# Altium footprint library Switcher.PcbLib: 128 footprints (part 6 of 9)
Each footprint in its own frame and in the unit in brackets; x right, y up, seen from the top. Pads: shape width x height; smd on the part's side, far side on the other; paste and mask are expansions set on the pad; w line width, h text height; cw(c..) or ccw(c..) is an arc to the next point about the centre after c.
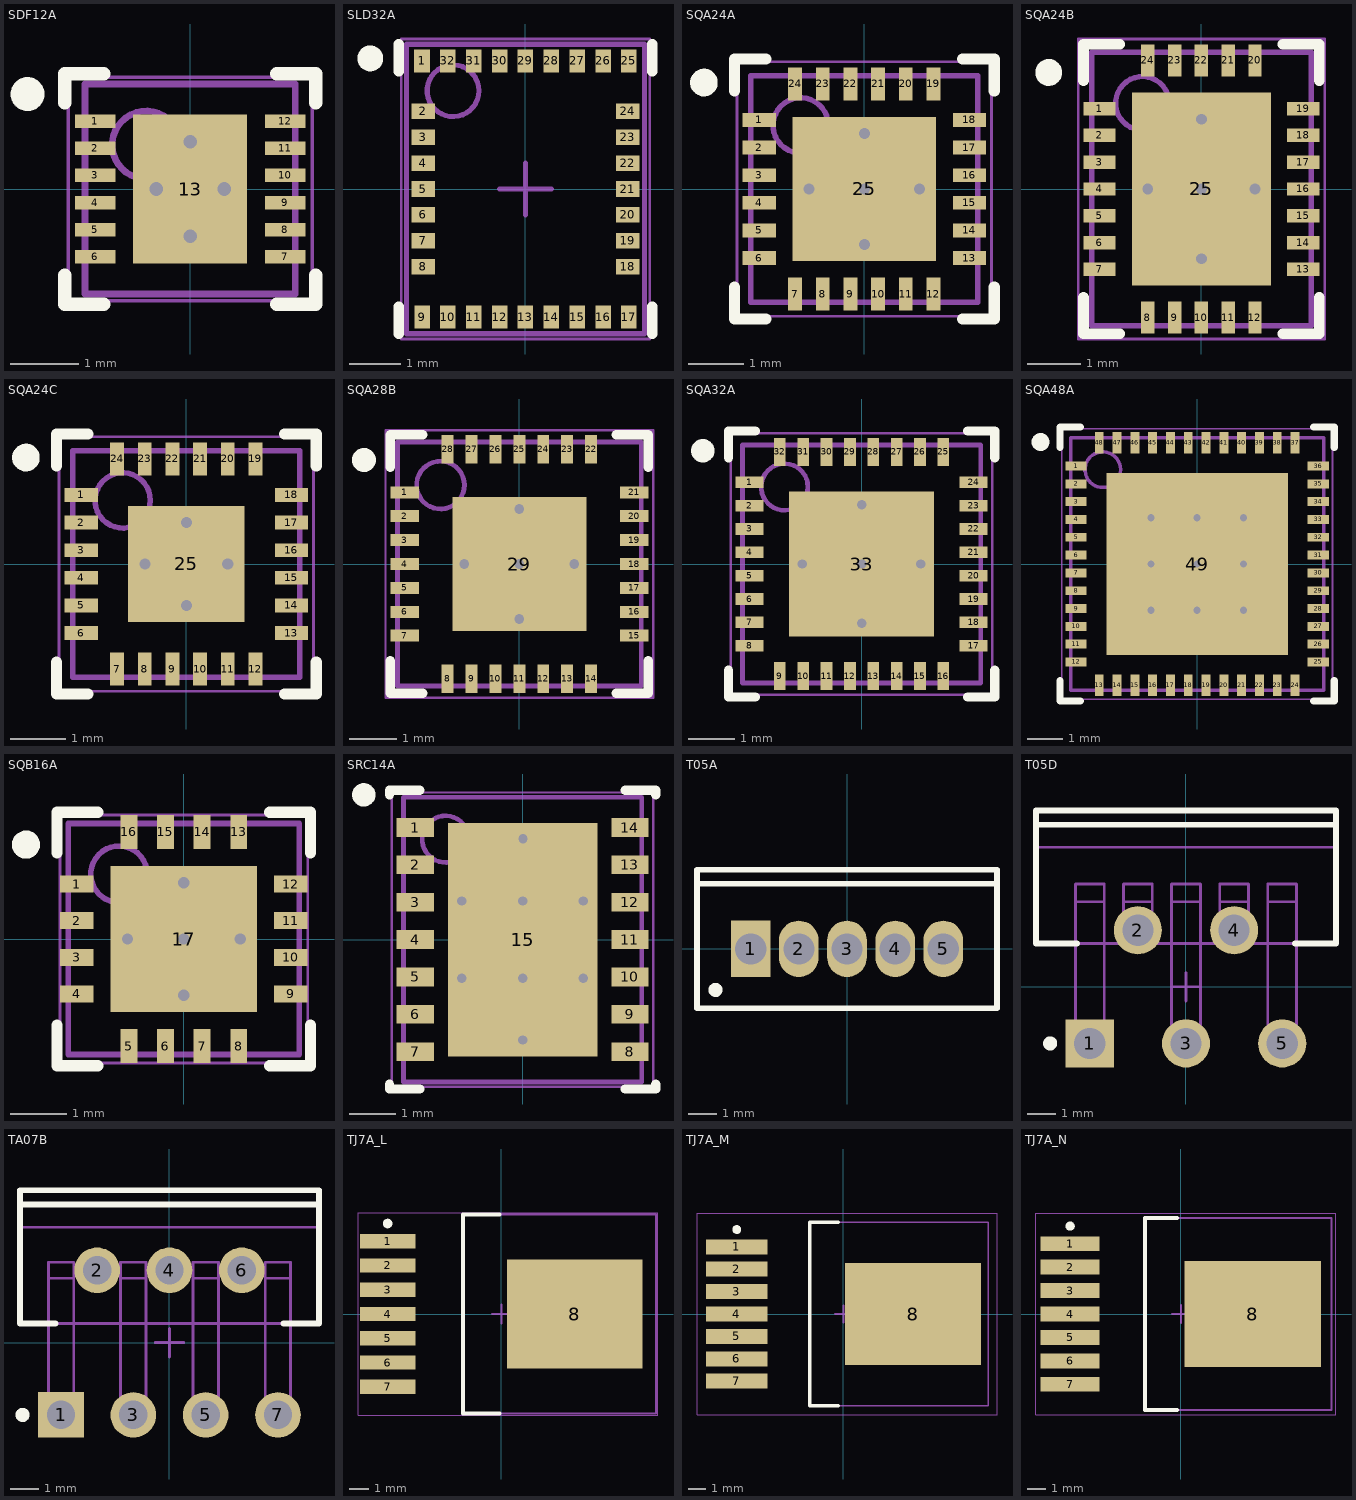
[diagram p5: the footprints below, top view; thin cyan lines are the x and y axes]

## SDF12A [mm] "SON, 12-Leads, Body 3x3mm, Pitch 0.4mm, NSC Recommended"
height 0.8
pads (13):
  rect 0.6x0.2 smd paste-0.125 mask+0.051: 1(-1.4,1) 2(-1.4,0.6) 3(-1.4,0.2) 4(-1.4,-0.2) 5(-1.4,-0.6) 6(-1.4,-1) 7(1.4,-1) 8(1.4,-0.6) 9(1.4,-0.2) 10(1.4,0.2) 11(1.4,0.6) 12(1.4,1)
  rect 1.68x2.2 smd paste-0.05 mask+0.051: 13(0,0)
via 0,-0.7 diameter 0.5 hole 0.2
via 0,0.7 diameter 0.5 hole 0.2
via 0.5,0 diameter 0.5 hole 0.2
via -0.5,0 diameter 0.5 hole 0.2
Top Overlay:
  circle w0.25: c-2.4,1.4 r0.125
  lines w0.2: -1.85,-1.275 -1.85,-1.7 -1.275,-1.7 ; -1.85,1.275 -1.85,1.7 -1.275,1.7 ; 1.275,-1.7 1.85,-1.7 1.85,-1.275 ; 1.275,1.7 1.85,1.7 1.85,1.275
Top Paste:
  rectangle: -1.9,0.9 -1.2,1.1
  rectangle: -1.9,0.5 -1.2,0.7
  rectangle: -1.9,0.1 -1.2,0.3
  rectangle: -1.9,-0.3 -1.2,-0.1
  rectangle: -1.9,-0.7 -1.2,-0.5
  rectangle: -1.9,-1.1 -1.2,-0.9
  region: 1.9,-0.9 1.2,-0.9 1.2,-1.1 1.9,-1.1
  region: 1.9,-0.5 1.2,-0.5 1.2,-0.7 1.9,-0.7
  region: 1.9,-0.1 1.2,-0.1 1.2,-0.3 1.9,-0.3
  region: 1.9,0.3 1.2,0.3 1.2,0.1 1.9,0.1
  region: 1.9,0.7 1.2,0.7 1.2,0.5 1.9,0.5
  region: 1.9,1.1 1.2,1.1 1.2,0.9 1.9,0.9
Mechanical 13:
  circle w0.1: c-0.65,0.65 r0.5
  lines w0.1: -1.55,-1.55 -1.55,1.55 1.55,1.55 1.55,-1.55 -1.55,-1.55
Mechanical 15:
  lines w0.05: -1.8,-1.65 -1.8,1.65 1.8,1.65 1.8,-1.65 -1.8,-1.65
  lines w0.1: -0.5,0 0.5,0 ; 0,-0.5 0,0.5
3D body: height 0.8, standoff 0, extent -1.55,-1.55 1.55,1.55

## SLD32A [mm] "PQFN, 32-Leads (9x7 pads), Body 4.5x5.5mm, Pitch 0.5mm, NSC Recommended"
height 0.8
pads (32):
  rect 0.3x0.45 smd paste-0.15 mask+0.051: 1(-2,2.475) 9(-2,-2.475) 10(-1.5,-2.475) 11(-1,-2.475) 12(-0.5,-2.475) 13(0,-2.475) 14(0.5,-2.475) 15(1,-2.475) 16(1.5,-2.475) 17(2,-2.475) 25(2,2.475) 26(1.5,2.475) 27(1,2.475) 28(0.5,2.475) 29(0,2.475) 30(-0.5,2.475) 31(-1,2.475) 32(-1.5,2.475)
  rect 0.45x0.3 smd paste-0.15 mask+0.051: 2(-1.975,1.5) 3(-1.975,1) 4(-1.975,0.5) 5(-1.975,0) 6(-1.975,-0.5) 7(-1.975,-1) 8(-1.975,-1.5) 18(1.975,-1.5) 19(1.975,-1) 20(1.975,-0.5) 21(1.975,0) 22(1.975,0.5) 23(1.975,1) 24(1.975,1.5)
Top Overlay:
  circle w0.25: c-3,2.525 r0.125
  lines w0.2: -2.45,-2.8 -2.45,-2.275 ; -2.45,2.275 -2.45,2.8 ; 2.45,-2.8 2.45,-2.275 ; 2.45,2.275 2.45,2.8
Top Paste:
  region: -2.15,2.8 -2.15,2.35 -1.85,2.35 -1.85,2.8
  region: -1.65,2.8 -1.65,2.35 -1.35,2.35 -1.35,2.8
  region: -1.15,2.8 -1.15,2.35 -0.85,2.35 -0.85,2.8
  region: -0.65,2.8 -0.65,2.35 -0.35,2.35 -0.35,2.8
  region: -0.15,2.8 -0.15,2.35 0.15,2.35 0.15,2.8
  region: 0.35,2.8 0.35,2.35 0.65,2.35 0.65,2.8
  region: 0.85,2.8 0.85,2.35 1.15,2.35 1.15,2.8
  region: 1.35,2.8 1.35,2.35 1.65,2.35 1.65,2.8
  region: 1.85,2.8 1.85,2.35 2.15,2.35 2.15,2.8
  region: 2.3,1.65 1.85,1.65 1.85,1.35 2.3,1.35
  region: 2.3,1.15 1.85,1.15 1.85,0.85 2.3,0.85
  region: 2.3,0.65 1.85,0.65 1.85,0.35 2.3,0.35
  region: 2.3,0.15 1.85,0.15 1.85,-0.15 2.3,-0.15
  region: 2.3,-0.35 1.85,-0.35 1.85,-0.65 2.3,-0.65
  region: 2.3,-0.85 1.85,-0.85 1.85,-1.15 2.3,-1.15
  region: 2.3,-1.35 1.85,-1.35 1.85,-1.65 2.3,-1.65
  region: 2.15,-2.8 2.15,-2.35 1.85,-2.35 1.85,-2.8
  region: 1.65,-2.8 1.65,-2.35 1.35,-2.35 1.35,-2.8
  region: 1.15,-2.8 1.15,-2.35 0.85,-2.35 0.85,-2.8
  region: 0.65,-2.8 0.65,-2.35 0.35,-2.35 0.35,-2.8
  region: 0.15,-2.8 0.15,-2.35 -0.15,-2.35 -0.15,-2.8
  region: -0.35,-2.8 -0.35,-2.35 -0.65,-2.35 -0.65,-2.8
  region: -0.85,-2.8 -0.85,-2.35 -1.15,-2.35 -1.15,-2.8
  region: -1.35,-2.8 -1.35,-2.35 -1.65,-2.35 -1.65,-2.8
  region: -1.85,-2.8 -1.85,-2.35 -2.15,-2.35 -2.15,-2.8
  rectangle: -2.3,-1.65 -1.85,-1.35
  rectangle: -2.3,-1.15 -1.85,-0.85
  rectangle: -2.3,-0.65 -1.85,-0.35
  rectangle: -2.3,-0.15 -1.85,0.15
  rectangle: -2.3,0.35 -1.85,0.65
  rectangle: -2.3,0.85 -1.85,1.15
  rectangle: -2.3,1.35 -1.85,1.65
Mechanical 13:
  circle w0.1: c-1.4,1.9 r0.5
  lines w0.1: -2.3,-2.8 2.3,-2.8 2.3,2.8 -2.3,2.8 -2.3,-2.8
Mechanical 15:
  lines w0.05: 2.38,-2.9 -2.4,-2.9 -2.4,2.9 2.38,2.9 ; 2.4,-2.9 2.4,2.9
  lines w0.1: -0.5,0 0.5,0 ; 0,-0.5 0,0.5
3D body: height 0.8, standoff 0, extent -2.299,-2.799 2.299,2.799

## SQA24A [mm] "QFN, 24-Leads, Body 4x4mm, Pitch 0.5mm, NSC Recommended"
height 0.8
pads (25):
  rect 0.6x0.25 smd paste-0.125 mask+0.051: 1(-1.9,1.25) 2(-1.9,0.75) 3(-1.9,0.25) 4(-1.9,-0.25) 5(-1.9,-0.75) 6(-1.9,-1.25) 13(1.9,-1.25) 14(1.9,-0.75) 15(1.9,-0.25) 16(1.9,0.25) 17(1.9,0.75) 18(1.9,1.25)
  rect 0.25x0.6 smd paste-0.125 mask+0.051: 7(-1.25,-1.9) 8(-0.75,-1.9) 9(-0.25,-1.9) 10(0.25,-1.9) 11(0.75,-1.9) 12(1.25,-1.9) 19(1.25,1.9) 20(0.75,1.9) 21(0.25,1.9) 22(-0.25,1.9) 23(-0.75,1.9) 24(-1.25,1.9)
  rect 2.6x2.6 smd paste-1.3 mask+0.051: 25(0,0)
via 0,0 diameter 0.5 hole 0.2
via 1,0 diameter 0.5 hole 0.2
via -1,0 diameter 0.5 hole 0.2
via 0,1 diameter 0.5 hole 0.2
via 0,-1 diameter 0.5 hole 0.2
Top Overlay:
  circle w0.25: c-2.9,1.925 r0.125
  lines w0.2: -2.35,-1.775 -2.35,-2.35 -1.775,-2.35 ; -2.35,1.775 -2.35,2.35 -1.775,2.35 ; 1.775,-2.35 2.35,-2.35 2.35,-1.775 ; 1.775,2.35 2.35,2.35 2.35,1.775
Top Paste:
  region: 1.125,2.4 1.125,1.7 1.375,1.7 1.375,2.4
  region: 0.625,2.4 0.625,1.7 0.875,1.7 0.875,2.4
  region: 0.125,2.4 0.125,1.7 0.375,1.7 0.375,2.4
  region: -0.375,2.4 -0.375,1.7 -0.125,1.7 -0.125,2.4
  region: -0.875,2.4 -0.875,1.7 -0.625,1.7 -0.625,2.4
  region: -1.375,2.4 -1.375,1.7 -1.125,1.7 -1.125,2.4
  region: 2.4,-1.125 1.7,-1.125 1.7,-1.375 2.4,-1.375
  region: 2.4,-0.625 1.7,-0.625 1.7,-0.875 2.4,-0.875
  region: 2.4,-0.125 1.7,-0.125 1.7,-0.375 2.4,-0.375
  region: 2.4,0.375 1.7,0.375 1.7,0.125 2.4,0.125
  region: 2.4,0.875 1.7,0.875 1.7,0.625 2.4,0.625
  region: 2.4,1.375 1.7,1.375 1.7,1.125 2.4,1.125
  region: -1.125,-2.4 -1.125,-1.7 -1.375,-1.7 -1.375,-2.4
  region: -0.625,-2.4 -0.625,-1.7 -0.875,-1.7 -0.875,-2.4
  region: -0.125,-2.4 -0.125,-1.7 -0.375,-1.7 -0.375,-2.4
  region: 0.375,-2.4 0.375,-1.7 0.125,-1.7 0.125,-2.4
  region: 0.875,-2.4 0.875,-1.7 0.625,-1.7 0.625,-2.4
  region: 1.375,-2.4 1.375,-1.7 1.125,-1.7 1.125,-2.4
  rectangle: -2.4,-1.375 -1.7,-1.125
  rectangle: -2.4,-0.875 -1.7,-0.625
  rectangle: -2.4,-0.375 -1.7,-0.125
  rectangle: -2.4,0.125 -1.7,0.375
  rectangle: -2.4,0.625 -1.7,0.875
  rectangle: -2.4,1.125 -1.7,1.375
  rectangle: 0.1,-1.2 1.2,-0.1
  region: -0.1,-0.1 -1.2,-0.1 -1.2,-1.2 -0.1,-1.2
  region: -0.1,1.2 -1.2,1.2 -1.2,0.1 -0.1,0.1
  rectangle: 0.1,0.1 1.2,1.2
Mechanical 13:
  circle w0.1: c-1.15,1.15 r0.5
  lines w0.1: -2.05,-2.05 -2.05,2.05 2.05,2.05 2.05,-2.05 -2.05,-2.05
Mechanical 15:
  lines w0.05: -2.3,-2.3 -2.3,2.3 2.3,2.3 2.3,-2.3 -2.3,-2.3
  lines w0.1: -0.5,0 0.5,0 ; 0,-0.5 0,0.5
3D body: height 0.8, standoff 0, extent -2.05,-2.05 2.05,2.05

## SQA24B [mm] "QFN, 24-Leads, Body 5x4mm, Pitch 0.5mm, NSC Recommended"
height 0.8
pads (25):
  rect 0.6x0.25 smd paste-0.3 mask+0.051: 1(-1.9,1.5) 2(-1.9,1) 3(-1.9,0.5) 4(-1.9,0) 5(-1.9,-0.5) 6(-1.9,-1) 7(-1.9,-1.5) 13(1.9,-1.5) 14(1.9,-1) 15(1.9,-0.5) 16(1.9,0) 17(1.9,0.5) 18(1.9,1) 19(1.9,1.5)
  rect 0.25x0.6 smd paste-0.3 mask+0.051: 8(-1,-2.4) 9(-0.5,-2.4) 10(0,-2.4) 11(0.5,-2.4) 12(1,-2.4) 20(1,2.4) 21(0.5,2.4) 22(0,2.4) 23(-0.5,2.4) 24(-1,2.4)
  rect 2.6x3.6 smd paste-1.3 mask+0.051: 25(0,0)
via 0,0 diameter 0.5 hole 0.2
via -1,0 diameter 0.5 hole 0.2
via 0,-1.3 diameter 0.5 hole 0.2
via 0,1.3 diameter 0.5 hole 0.2
via 1,0 diameter 0.5 hole 0.2
Top Overlay:
  circle w0.25: c-2.85,2.175 r0.125
  lines w0.2: -2.2,-2.025 -2.2,-2.7 -1.525,-2.7 ; -2.2,2.025 -2.2,2.7 -1.525,2.7 ; 1.525,-2.7 2.2,-2.7 2.2,-2.025 ; 1.525,2.7 2.2,2.7 2.2,2.025
Top Paste:
  region: 1.125,-2.9 1.125,-2.2 0.875,-2.2 0.875,-2.9
  region: 0.625,-2.9 0.625,-2.2 0.375,-2.2 0.375,-2.9
  region: 0.125,-2.9 0.125,-2.2 -0.125,-2.2 -0.125,-2.9
  region: -0.375,-2.9 -0.375,-2.2 -0.625,-2.2 -0.625,-2.9
  region: -0.875,-2.9 -0.875,-2.2 -1.125,-2.2 -1.125,-2.9
  rectangle: -2.4,-1.625 -1.7,-1.375
  rectangle: -2.4,-1.125 -1.7,-0.875
  rectangle: -2.4,-0.625 -1.7,-0.375
  rectangle: -2.4,-0.125 -1.7,0.125
  rectangle: -2.4,0.375 -1.7,0.625
  rectangle: -2.4,0.875 -1.7,1.125
  rectangle: -2.4,1.375 -1.7,1.625
  region: -1.125,2.9 -1.125,2.2 -0.875,2.2 -0.875,2.9
  region: -0.625,2.9 -0.625,2.2 -0.375,2.2 -0.375,2.9
  region: -0.125,2.9 -0.125,2.2 0.125,2.2 0.125,2.9
  region: 0.375,2.9 0.375,2.2 0.625,2.2 0.625,2.9
  region: 0.875,2.9 0.875,2.2 1.125,2.2 1.125,2.9
  region: 2.4,-1.375 1.7,-1.375 1.7,-1.625 2.4,-1.625
  region: 2.4,-0.875 1.7,-0.875 1.7,-1.125 2.4,-1.125
  region: 2.4,-0.375 1.7,-0.375 1.7,-0.625 2.4,-0.625
  region: 2.4,0.125 1.7,0.125 1.7,-0.125 2.4,-0.125
  region: 2.4,0.625 1.7,0.625 1.7,0.375 2.4,0.375
  region: 2.4,1.125 1.7,1.125 1.7,0.875 2.4,0.875
  region: 2.4,1.625 1.7,1.625 1.7,1.375 2.4,1.375
  rectangle: 0.1,0.1 1.2,1.7
  region: -0.1,1.7 -1.2,1.7 -1.2,0.1 -0.1,0.1
  region: -0.1,-0.1 -1.2,-0.1 -1.2,-1.7 -0.1,-1.7
  rectangle: 0.1,-1.7 1.2,-0.1
Mechanical 13:
  circle w0.1: c-1.1,1.6 r0.5
  lines w0.1: -2.05,-2.55 2.05,-2.55 2.05,2.55 -2.05,2.55 -2.05,-2.55
Mechanical 15:
  lines w0.05: -2.3,-2.8 2.3,-2.8 2.3,2.8 -2.3,2.8 -2.3,-2.8
  lines w0.1: -0.5,0 0.5,0 ; 0,-0.5 0,0.5
3D body: height 0.8, standoff 0, extent -2.05,-2.55 2.05,2.55

## SQA24C [mm] "QFN, 24-Leads, Body 4x4mm, Pitch 0.5mm, NSC Recommended"
height 0.8
pads (25):
  rect 0.6x0.25 smd paste-0.125 mask+0.051: 1(-1.9,1.25) 2(-1.9,0.75) 3(-1.9,0.25) 4(-1.9,-0.25) 5(-1.9,-0.75) 6(-1.9,-1.25) 13(1.9,-1.25) 14(1.9,-0.75) 15(1.9,-0.25) 16(1.9,0.25) 17(1.9,0.75) 18(1.9,1.25)
  rect 0.25x0.6 smd paste-0.125 mask+0.051: 7(-1.25,-1.9) 8(-0.75,-1.9) 9(-0.25,-1.9) 10(0.25,-1.9) 11(0.75,-1.9) 12(1.25,-1.9) 19(1.25,1.9) 20(0.75,1.9) 21(0.25,1.9) 22(-0.25,1.9) 23(-0.75,1.9) 24(-1.25,1.9)
  rect 2.1x2.1 smd paste-1.05 mask+0.051: 25(0,0)
via 0.75,0 diameter 0.5 hole 0.2
via -0.75,0 diameter 0.5 hole 0.2
via 0,0.75 diameter 0.5 hole 0.2
via 0,-0.75 diameter 0.5 hole 0.2
Top Overlay:
  circle w0.25: c-2.9,1.925 r0.125
  lines w0.2: -2.35,-1.775 -2.35,-2.35 -1.775,-2.35 ; -2.35,1.775 -2.35,2.35 -1.775,2.35 ; 1.775,-2.35 2.35,-2.35 2.35,-1.775 ; 1.775,2.35 2.35,2.35 2.35,1.775
Top Paste:
  rectangle: -0.95,-0.95 0.95,0.95
  region: 1.125,2.4 1.125,1.7 1.375,1.7 1.375,2.4
  region: 0.625,2.4 0.625,1.7 0.875,1.7 0.875,2.4
  region: 0.125,2.4 0.125,1.7 0.375,1.7 0.375,2.4
  region: -0.375,2.4 -0.375,1.7 -0.125,1.7 -0.125,2.4
  region: -0.875,2.4 -0.875,1.7 -0.625,1.7 -0.625,2.4
  region: -1.375,2.4 -1.375,1.7 -1.125,1.7 -1.125,2.4
  region: 2.4,-1.125 1.7,-1.125 1.7,-1.375 2.4,-1.375
  region: 2.4,-0.625 1.7,-0.625 1.7,-0.875 2.4,-0.875
  region: 2.4,-0.125 1.7,-0.125 1.7,-0.375 2.4,-0.375
  region: 2.4,0.375 1.7,0.375 1.7,0.125 2.4,0.125
  region: 2.4,0.875 1.7,0.875 1.7,0.625 2.4,0.625
  region: 2.4,1.375 1.7,1.375 1.7,1.125 2.4,1.125
  region: -1.125,-2.4 -1.125,-1.7 -1.375,-1.7 -1.375,-2.4
  region: -0.625,-2.4 -0.625,-1.7 -0.875,-1.7 -0.875,-2.4
  region: -0.125,-2.4 -0.125,-1.7 -0.375,-1.7 -0.375,-2.4
  region: 0.375,-2.4 0.375,-1.7 0.125,-1.7 0.125,-2.4
  region: 0.875,-2.4 0.875,-1.7 0.625,-1.7 0.625,-2.4
  region: 1.375,-2.4 1.375,-1.7 1.125,-1.7 1.125,-2.4
  rectangle: -2.4,-1.375 -1.7,-1.125
  rectangle: -2.4,-0.875 -1.7,-0.625
  rectangle: -2.4,-0.375 -1.7,-0.125
  rectangle: -2.4,0.125 -1.7,0.375
  rectangle: -2.4,0.625 -1.7,0.875
  rectangle: -2.4,1.125 -1.7,1.375
Mechanical 13:
  circle w0.1: c-1.15,1.15 r0.5
  lines w0.1: -2.05,-2.05 -2.05,2.05 2.05,2.05 2.05,-2.05 -2.05,-2.05
Mechanical 15:
  lines w0.05: -2.3,-2.3 -2.3,2.3 2.3,2.3 2.3,-2.3 -2.3,-2.3
  lines w0.1: -0.5,0 0.5,0 ; 0,-0.5 0,0.5
3D body: height 0.8, standoff 0, extent -2.05,-2.05 2.05,2.05

## SQA28B [mm] "QFN, 29-Leads, Body 5x5mm, Pitch 0.5mm, Thermal Pad 2.8x2.8mm, NSC Recommended"
height 0.8
pads (29):
  rect 0.6x0.25 smd paste-0.125 mask+0.051: 1(-2.4,1.5) 2(-2.4,1) 3(-2.4,0.5) 4(-2.4,0) 5(-2.4,-0.5) 6(-2.4,-1) 7(-2.4,-1.5) 15(2.4,-1.5) 16(2.4,-1) 17(2.4,-0.5) 18(2.4,0) 19(2.4,0.5) 20(2.4,1) 21(2.4,1.5)
  rect 0.25x0.6 smd paste-0.125 mask+0.051: 8(-1.5,-2.4) 9(-1,-2.4) 10(-0.5,-2.4) 11(0,-2.4) 12(0.5,-2.4) 13(1,-2.4) 14(1.5,-2.4) 22(1.5,2.4) 23(1,2.4) 24(0.5,2.4) 25(0,2.4) 26(-0.5,2.4) 27(-1,2.4) 28(-1.5,2.4)
  rect 2.8x2.8 smd paste-1.8 mask+0.051: 29(0,0)
via -1.15,0 diameter 0.5 hole 0.2
via 0,-1.15 diameter 0.5 hole 0.2
via 0,1.15 diameter 0.5 hole 0.2
via 1.15,0 diameter 0.5 hole 0.2
via 0,0 diameter 0.5 hole 0.2
Top Overlay:
  circle w0.25: c-3.25,2.175 r0.125
  lines w0.2: -2.7,-2.025 -2.7,-2.7 -2.025,-2.7 ; -2.7,2.025 -2.7,2.7 -2.025,2.7 ; 2.025,-2.7 2.7,-2.7 2.7,-2.025 ; 2.025,2.7 2.7,2.7 2.7,2.025
Top Paste:
  region: 1.2,0.1 1.2,1.2 0.1,1.2 0.1,0.1
  rectangle: 0.1,-1.2 1.2,-0.1
  region: -1.2,-0.1 -1.2,-1.2 -0.1,-1.2 -0.1,-0.1
  region: -0.1,1.2 -1.2,1.2 -1.2,0.1 -0.1,0.1
  region: -1.375,-2.9 -1.375,-2.2 -1.625,-2.2 -1.625,-2.9
  region: -0.875,-2.9 -0.875,-2.2 -1.125,-2.2 -1.125,-2.9
  region: -0.375,-2.9 -0.375,-2.2 -0.625,-2.2 -0.625,-2.9
  region: 0.125,-2.9 0.125,-2.2 -0.125,-2.2 -0.125,-2.9
  region: 0.625,-2.9 0.625,-2.2 0.375,-2.2 0.375,-2.9
  region: 1.125,-2.9 1.125,-2.2 0.875,-2.2 0.875,-2.9
  region: 1.625,-2.9 1.625,-2.2 1.375,-2.2 1.375,-2.9
  region: -1.625,2.9 -1.625,2.2 -1.375,2.2 -1.375,2.9
  region: -1.125,2.9 -1.125,2.2 -0.875,2.2 -0.875,2.9
  region: -0.625,2.9 -0.625,2.2 -0.375,2.2 -0.375,2.9
  region: -0.125,2.9 -0.125,2.2 0.125,2.2 0.125,2.9
  region: 0.375,2.9 0.375,2.2 0.625,2.2 0.625,2.9
  region: 0.875,2.9 0.875,2.2 1.125,2.2 1.125,2.9
  region: 1.375,2.9 1.375,2.2 1.625,2.2 1.625,2.9
  region: 2.9,1.625 2.2,1.625 2.2,1.375 2.9,1.375
  region: 2.9,1.125 2.2,1.125 2.2,0.875 2.9,0.875
  region: 2.9,0.625 2.2,0.625 2.2,0.375 2.9,0.375
  region: 2.9,0.125 2.2,0.125 2.2,-0.125 2.9,-0.125
  region: 2.9,-0.375 2.2,-0.375 2.2,-0.625 2.9,-0.625
  region: 2.9,-0.875 2.2,-0.875 2.2,-1.125 2.9,-1.125
  region: 2.9,-1.375 2.2,-1.375 2.2,-1.625 2.9,-1.625
  rectangle: -2.9,-1.625 -2.2,-1.375
  rectangle: -2.9,-1.125 -2.2,-0.875
  rectangle: -2.9,-0.625 -2.2,-0.375
  rectangle: -2.9,-0.125 -2.2,0.125
  rectangle: -2.9,0.375 -2.2,0.625
  rectangle: -2.9,0.875 -2.2,1.125
  rectangle: -2.9,1.375 -2.2,1.625
Mechanical 13:
  circle w0.1: c-1.65,1.65 r0.5
  lines w0.1: -2.55,-2.55 -2.55,2.55 2.55,2.55 2.55,-2.55 -2.55,-2.55
Mechanical 15:
  lines w0.05: -2.8,-2.8 -2.8,2.8 2.8,2.8 2.8,-2.8 -2.8,-2.8
  lines w0.1: -0.5,0 0.5,0 ; 0,-0.5 0,0.5
3D body: height 0.8, standoff 0, extent -2.55,-2.55 2.55,2.55

## SQA32A [mm] "QFN, 32-Leads, Body 5x5mm, Pitch 0.5mm, NSC Recommended"
height 0.8
pads (33):
  rect 0.6x0.25 smd paste-0.125 mask+0.051: 1(-2.4,1.75) 2(-2.4,1.25) 3(-2.4,0.75) 4(-2.4,0.25) 5(-2.4,-0.25) 6(-2.4,-0.75) 7(-2.4,-1.25) 8(-2.4,-1.75) 17(2.4,-1.75) 18(2.4,-1.25) 19(2.4,-0.75) 20(2.4,-0.25) 21(2.4,0.25) 22(2.4,0.75) 23(2.4,1.25) 24(2.4,1.75)
  rect 0.25x0.6 smd paste-0.125 mask+0.051: 9(-1.75,-2.4) 10(-1.25,-2.4) 11(-0.75,-2.4) 12(-0.25,-2.4) 13(0.25,-2.4) 14(0.75,-2.4) 15(1.25,-2.4) 16(1.75,-2.4) 25(1.75,2.4) 26(1.25,2.4) 27(0.75,2.4) 28(0.25,2.4) 29(-0.25,2.4) 30(-0.75,2.4) 31(-1.25,2.4) 32(-1.75,2.4)
  rect 3.1x3.1 smd paste-1.55 mask+0.051: 33(0,0)
via 0,1.27 diameter 0.5 hole 0.2
via -1.27,0 diameter 0.5 hole 0.2
via 0,0 diameter 0.5 hole 0.2
via 1.27,0 diameter 0.5 hole 0.2
via 0,-1.27 diameter 0.5 hole 0.2
Top Overlay:
  circle w0.25: c-3.4,2.425 r0.125
  lines w0.2: -2.85,-2.275 -2.85,-2.85 -2.275,-2.85 ; -2.85,2.275 -2.85,2.85 -2.275,2.85 ; 2.275,-2.85 2.85,-2.85 2.85,-2.275 ; 2.275,2.85 2.85,2.85 2.85,2.275
Top Paste:
  region: 1.625,2.9 1.625,2.2 1.875,2.2 1.875,2.9
  region: 1.125,2.9 1.125,2.2 1.375,2.2 1.375,2.9
  region: 0.625,2.9 0.625,2.2 0.875,2.2 0.875,2.9
  region: 0.125,2.9 0.125,2.2 0.375,2.2 0.375,2.9
  region: -0.375,2.9 -0.375,2.2 -0.125,2.2 -0.125,2.9
  region: -0.875,2.9 -0.875,2.2 -0.625,2.2 -0.625,2.9
  region: -1.375,2.9 -1.375,2.2 -1.125,2.2 -1.125,2.9
  region: -1.875,2.9 -1.875,2.2 -1.625,2.2 -1.625,2.9
  region: 2.9,-1.625 2.2,-1.625 2.2,-1.875 2.9,-1.875
  region: 2.9,-1.125 2.2,-1.125 2.2,-1.375 2.9,-1.375
  region: 2.9,-0.625 2.2,-0.625 2.2,-0.875 2.9,-0.875
  region: 2.9,-0.125 2.2,-0.125 2.2,-0.375 2.9,-0.375
  region: 2.9,0.375 2.2,0.375 2.2,0.125 2.9,0.125
  region: 2.9,0.875 2.2,0.875 2.2,0.625 2.9,0.625
  region: 2.9,1.375 2.2,1.375 2.2,1.125 2.9,1.125
  region: 2.9,1.875 2.2,1.875 2.2,1.625 2.9,1.625
  region: -1.625,-2.9 -1.625,-2.2 -1.875,-2.2 -1.875,-2.9
  region: -1.125,-2.9 -1.125,-2.2 -1.375,-2.2 -1.375,-2.9
  region: -0.625,-2.9 -0.625,-2.2 -0.875,-2.2 -0.875,-2.9
  region: -0.125,-2.9 -0.125,-2.2 -0.375,-2.2 -0.375,-2.9
  region: 0.375,-2.9 0.375,-2.2 0.125,-2.2 0.125,-2.9
  region: 0.875,-2.9 0.875,-2.2 0.625,-2.2 0.625,-2.9
  region: 1.375,-2.9 1.375,-2.2 1.125,-2.2 1.125,-2.9
  region: 1.875,-2.9 1.875,-2.2 1.625,-2.2 1.625,-2.9
  rectangle: -2.9,-1.875 -2.2,-1.625
  rectangle: -2.9,-1.375 -2.2,-1.125
  rectangle: -2.9,-0.875 -2.2,-0.625
  rectangle: -2.9,-0.375 -2.2,-0.125
  rectangle: -2.9,0.125 -2.2,0.375
  rectangle: -2.9,0.625 -2.2,0.875
  rectangle: -2.9,1.125 -2.2,1.375
  rectangle: -2.9,1.625 -2.2,1.875
  rectangle: 0.1,0.1 1.4,1.4
  region: -0.1,1.4 -1.4,1.4 -1.4,0.1 -0.1,0.1
  region: -0.1,-0.1 -1.4,-0.1 -1.4,-1.4 -0.1,-1.4
  rectangle: 0.1,-1.4 1.4,-0.1
Mechanical 13:
  circle w0.1: c-1.65,1.65 r0.5
  lines w0.1: -2.55,-2.55 -2.55,2.55 2.55,2.55 2.55,-2.55 -2.55,-2.55
Mechanical 15:
  lines w0.05: -2.8,-2.8 -2.8,2.8 2.8,2.8 2.8,-2.8 -2.8,-2.8
  lines w0.1: -0.5,0 0.5,0 ; 0,-0.5 0,0.5
3D body: height 0.8, standoff 0, extent -2.55,-2.55 2.55,2.55

## SQA48A [mm] "QFN, 48-Leads, Body 7x7mm, Pitch 0.5mm, NSC Recommended"
height 0.8
pads (49):
  rect 0.6x0.25 smd paste-0.125 mask+0.051: 1(-3.4,2.75) 2(-3.4,2.25) 3(-3.4,1.75) 4(-3.4,1.25) 5(-3.4,0.75) 6(-3.4,0.25) 7(-3.4,-0.25) 8(-3.4,-0.75) 9(-3.4,-1.25) 10(-3.4,-1.75) 11(-3.4,-2.25) 12(-3.4,-2.75) 25(3.4,-2.75) 26(3.4,-2.25) 27(3.4,-1.75) 28(3.4,-1.25) 29(3.4,-0.75) 30(3.4,-0.25) 31(3.4,0.25) 32(3.4,0.75) 33(3.4,1.25) 34(3.4,1.75) 35(3.4,2.25) 36(3.4,2.75)
  rect 0.25x0.6 smd paste-0.125 mask+0.051: 13(-2.75,-3.4) 14(-2.25,-3.4) 15(-1.75,-3.4) 16(-1.25,-3.4) 17(-0.75,-3.4) 18(-0.25,-3.4) 19(0.25,-3.4) 20(0.75,-3.4) 21(1.25,-3.4) 22(1.75,-3.4) 23(2.25,-3.4) 24(2.75,-3.4) 37(2.75,3.4) 38(2.25,3.4) 39(1.75,3.4) 40(1.25,3.4) 41(0.75,3.4) 42(0.25,3.4) 43(-0.25,3.4) 44(-0.75,3.4) 45(-1.25,3.4) 46(-1.75,3.4) 47(-2.25,3.4) 48(-2.75,3.4)
  rect 5.1x5.1 smd paste-2.55 mask+0.051: 49(0,0)
via 0,-1.3 diameter 0.5 hole 0.2
via 1.3,-1.3 diameter 0.5 hole 0.2
via -1.3,-1.3 diameter 0.5 hole 0.2
via 0,1.3 diameter 0.5 hole 0.2
via 1.3,1.3 diameter 0.5 hole 0.2
via -1.3,1.3 diameter 0.5 hole 0.2
via -1.3,0 diameter 0.5 hole 0.2
via 1.3,0 diameter 0.5 hole 0.2
via 0,0 diameter 0.5 hole 0.2
Top Overlay:
  circle w0.25: c-4.4,3.425 r0.125
  lines w0.2: -3.85,-3.275 -3.85,-3.85 -3.275,-3.85 ; -3.85,3.275 -3.85,3.85 -3.275,3.85 ; 3.275,-3.85 3.85,-3.85 3.85,-3.275 ; 3.275,3.85 3.85,3.85 3.85,3.275
Top Paste:
  rectangle: -3.9,2.625 -3.2,2.875
  rectangle: -3.9,2.125 -3.2,2.375
  rectangle: -3.9,1.625 -3.2,1.875
  rectangle: -3.9,1.125 -3.2,1.375
  rectangle: -3.9,0.625 -3.2,0.875
  rectangle: -3.9,0.125 -3.2,0.375
  rectangle: -3.9,-0.375 -3.2,-0.125
  rectangle: -3.9,-0.875 -3.2,-0.625
  rectangle: -3.9,-1.375 -3.2,-1.125
  rectangle: -3.9,-1.875 -3.2,-1.625
  rectangle: -3.9,-2.375 -3.2,-2.125
  rectangle: -3.9,-2.875 -3.2,-2.625
  region: 2.875,-3.9 2.875,-3.2 2.625,-3.2 2.625,-3.9
  region: 2.375,-3.9 2.375,-3.2 2.125,-3.2 2.125,-3.9
  region: 1.875,-3.9 1.875,-3.2 1.625,-3.2 1.625,-3.9
  region: 1.375,-3.9 1.375,-3.2 1.125,-3.2 1.125,-3.9
  region: 0.875,-3.9 0.875,-3.2 0.625,-3.2 0.625,-3.9
  region: 0.375,-3.9 0.375,-3.2 0.125,-3.2 0.125,-3.9
  region: -0.125,-3.9 -0.125,-3.2 -0.375,-3.2 -0.375,-3.9
  region: -0.625,-3.9 -0.625,-3.2 -0.875,-3.2 -0.875,-3.9
  region: -1.125,-3.9 -1.125,-3.2 -1.375,-3.2 -1.375,-3.9
  region: -1.625,-3.9 -1.625,-3.2 -1.875,-3.2 -1.875,-3.9
  region: -2.125,-3.9 -2.125,-3.2 -2.375,-3.2 -2.375,-3.9
  region: -2.625,-3.9 -2.625,-3.2 -2.875,-3.2 -2.875,-3.9
  region: 3.9,2.875 3.2,2.875 3.2,2.625 3.9,2.625
  region: 3.9,2.375 3.2,2.375 3.2,2.125 3.9,2.125
  region: 3.9,1.875 3.2,1.875 3.2,1.625 3.9,1.625
  region: 3.9,1.375 3.2,1.375 3.2,1.125 3.9,1.125
  region: 3.9,0.875 3.2,0.875 3.2,0.625 3.9,0.625
  region: 3.9,0.375 3.2,0.375 3.2,0.125 3.9,0.125
  region: 3.9,-0.125 3.2,-0.125 3.2,-0.375 3.9,-0.375
  region: 3.9,-0.625 3.2,-0.625 3.2,-0.875 3.9,-0.875
  region: 3.9,-1.125 3.2,-1.125 3.2,-1.375 3.9,-1.375
  region: 3.9,-1.625 3.2,-1.625 3.2,-1.875 3.9,-1.875
  region: 3.9,-2.125 3.2,-2.125 3.2,-2.375 3.9,-2.375
  region: 3.9,-2.625 3.2,-2.625 3.2,-2.875 3.9,-2.875
  region: -2.875,3.9 -2.875,3.2 -2.625,3.2 -2.625,3.9
  region: -2.375,3.9 -2.375,3.2 -2.125,3.2 -2.125,3.9
  region: -1.875,3.9 -1.875,3.2 -1.625,3.2 -1.625,3.9
  region: -1.375,3.9 -1.375,3.2 -1.125,3.2 -1.125,3.9
  region: -0.875,3.9 -0.875,3.2 -0.625,3.2 -0.625,3.9
  region: -0.375,3.9 -0.375,3.2 -0.125,3.2 -0.125,3.9
  region: 0.125,3.9 0.125,3.2 0.375,3.2 0.375,3.9
  region: 0.625,3.9 0.625,3.2 0.875,3.2 0.875,3.9
  region: 1.125,3.9 1.125,3.2 1.375,3.2 1.375,3.9
  region: 1.625,3.9 1.625,3.2 1.875,3.2 1.875,3.9
  region: 2.125,3.9 2.125,3.2 2.375,3.2 2.375,3.9
  region: 2.625,3.9 2.625,3.2 2.875,3.2 2.875,3.9
  rectangle: 0.1,0.1 1.2,1.2
  rectangle: 0.1,1.4 1.2,2.5
  rectangle: 1.4,0.1 2.5,1.2
  rectangle: 1.4,1.4 2.5,2.5
  region: -1.4,2.5 -2.5,2.5 -2.5,1.4 -1.4,1.4
  region: -1.4,1.2 -2.5,1.2 -2.5,0.1 -1.4,0.1
  region: -0.1,2.5 -1.2,2.5 -1.2,1.4 -0.1,1.4
  region: -0.1,1.2 -1.2,1.2 -1.2,0.1 -0.1,0.1
  region: -2.5,-1.4 -2.5,-2.5 -1.4,-2.5 -1.4,-1.4
  region: -1.2,-1.4 -1.2,-2.5 -0.1,-2.5 -0.1,-1.4
  region: -2.5,-0.1 -2.5,-1.2 -1.4,-1.2 -1.4,-0.1
  region: -1.2,-0.1 -1.2,-1.2 -0.1,-1.2 -0.1,-0.1
  region: 1.4,-1.4 1.4,-2.5 2.5,-2.5 2.5,-1.4
  region: 0.1,-1.4 0.1,-2.5 1.2,-2.5 1.2,-1.4
  region: 1.4,-0.1 1.4,-1.2 2.5,-1.2 2.5,-0.1
  region: 0.1,-0.1 0.1,-1.2 1.2,-1.2 1.2,-0.1
Mechanical 13:
  circle w0.1: c-2.65,2.65 r0.5
  lines w0.1: -3.55,-3.55 3.55,-3.55 3.55,3.55 -3.55,3.55 -3.55,-3.55
Mechanical 15:
  lines w0.05: -3.8,-3.8 3.8,-3.8 3.8,3.8 -3.8,3.8 -3.8,-3.8
  lines w0.1: -0.5,0 0.5,0 ; 0,-0.5 0,0.5
3D body: height 0.8, standoff 0, extent -3.55,-3.55 3.55,3.55

## SQB16A [mm] "QFN, 16-Leads, Body 4x4mm, Pitch 0.65mm, Thermal Pad 2.6x2.6mm, NSC Recommended"
height 0.8
pads (17):
  rect 0.6x0.3 smd paste-0.15 mask+0.051: 1(-1.9,0.975) 2(-1.9,0.325) 3(-1.9,-0.325) 4(-1.9,-0.975) 9(1.9,-0.975) 10(1.9,-0.325) 11(1.9,0.325) 12(1.9,0.975)
  rect 0.3x0.6 smd paste-0.15 mask+0.051: 5(-0.975,-1.9) 6(-0.325,-1.9) 7(0.325,-1.9) 8(0.975,-1.9) 13(0.975,1.9) 14(0.325,1.9) 15(-0.325,1.9) 16(-0.975,1.9)
  rect 2.6x2.6 smd paste-1.3 mask+0.051: 17(0,0)
via 0,0 diameter 0.5 hole 0.2
via 1,0 diameter 0.5 hole 0.2
via -1,0 diameter 0.5 hole 0.2
via 0,1 diameter 0.5 hole 0.2
via 0,-1 diameter 0.5 hole 0.2
Top Overlay:
  circle w0.25: c-2.8,1.675 r0.125
  lines w0.2: -2.25,-1.525 -2.25,-2.25 -1.525,-2.25 ; -2.25,1.525 -2.25,2.25 -1.525,2.25 ; 1.525,-2.25 2.25,-2.25 2.25,-1.525 ; 1.525,2.25 2.25,2.25 2.25,1.525
Top Paste:
  rectangle: -2.4,0.825 -1.7,1.125
  rectangle: -2.4,0.175 -1.7,0.475
  rectangle: -2.4,-0.475 -1.7,-0.175
  rectangle: -2.4,-1.125 -1.7,-0.825
  region: 1.125,-2.4 1.125,-1.7 0.825,-1.7 0.825,-2.4
  region: 0.475,-2.4 0.475,-1.7 0.175,-1.7 0.175,-2.4
  region: -0.175,-2.4 -0.175,-1.7 -0.475,-1.7 -0.475,-2.4
  region: -0.825,-2.4 -0.825,-1.7 -1.125,-1.7 -1.125,-2.4
  region: 2.4,1.125 1.7,1.125 1.7,0.825 2.4,0.825
  region: 2.4,0.475 1.7,0.475 1.7,0.175 2.4,0.175
  region: 2.4,-0.175 1.7,-0.175 1.7,-0.475 2.4,-0.475
  region: 2.4,-0.825 1.7,-0.825 1.7,-1.125 2.4,-1.125
  region: -1.125,2.4 -1.125,1.7 -0.825,1.7 -0.825,2.4
  region: -0.475,2.4 -0.475,1.7 -0.175,1.7 -0.175,2.4
  region: 0.175,2.4 0.175,1.7 0.475,1.7 0.475,2.4
  region: 0.825,2.4 0.825,1.7 1.125,1.7 1.125,2.4
  rectangle: 0.1,0.1 1.2,1.2
  region: -0.1,1.2 -1.2,1.2 -1.2,0.1 -0.1,0.1
  region: -0.1,-0.1 -1.2,-0.1 -1.2,-1.2 -0.1,-1.2
  rectangle: 0.1,-1.2 1.2,-0.1
Mechanical 13:
  circle w0.1: c-1.15,1.15 r0.5
  lines w0.1: -2.05,-2.05 -2.05,2.05 2.05,2.05 2.05,-2.05 -2.05,-2.05
Mechanical 15:
  lines w0.05: -2.2,-2.2 -2.2,2.2 2.2,2.2 2.2,-2.2 -2.2,-2.2
  lines w0.1: -0.5,0 0.5,0 ; 0,-0.5 0,0.5
3D body: height 0.8, standoff 0, extent -2.05,-2.05 2.05,2.05

## SRC14A [mm] "SON, 14-Leads, Body 6x5 mm, Pitch 0.8mm, NSC Recommended"
height 1
pads (15):
  rect 0.8x0.4 smd paste-0.2 mask+0.051: 1(-2.3,2.4) 2(-2.3,1.6) 3(-2.3,0.8) 4(-2.3,0) 5(-2.3,-0.8) 6(-2.3,-1.6) 7(-2.3,-2.4) 8(2.3,-2.4) 9(2.3,-1.6) 10(2.3,-0.8) 11(2.3,0) 12(2.3,0.8) 13(2.3,1.6) 14(2.3,2.4)
  rect 3.2x5 smd paste-1.6 mask+0.051: 15(0,0)
via 0.01,2.16 diameter 0.5 hole 0.2
via 0,-2.15 diameter 0.5 hole 0.2
via -1.3,0.825 diameter 0.5 hole 0.2
via 0,0.825 diameter 0.5 hole 0.2
via 1.3,0.825 diameter 0.5 hole 0.2
via -1.3,-0.825 diameter 0.5 hole 0.2
via 0,-0.825 diameter 0.5 hole 0.2
via 1.3,-0.825 diameter 0.5 hole 0.2
Top Overlay:
  circle w0.25: c-3.4,3.1 r0.125
  lines w0.2: -2.85,-3.2 -2.85,-3.1 ; -2.85,3.1 -2.85,3.2 ; -2.845,-3.2 -2.2,-3.2 ; -2.845,3.2 -2.2,3.2 ; 2.2,-3.2 2.845,-3.2 ; 2.2,3.2 2.845,3.2 ; 2.85,-3.2 2.85,-3.1 ; 2.85,3.1 2.85,3.2
Top Paste:
  region: 2.9,2.6 2,2.6 2,2.2 2.9,2.2
  region: 2.9,1.8 2,1.8 2,1.4 2.9,1.4
  region: 2.9,1 2,1 2,0.6 2.9,0.6
  region: 2.9,-0.6 2,-0.6 2,-1 2.9,-1
  region: 2.9,-1.4 2,-1.4 2,-1.8 2.9,-1.8
  region: 2.9,-2.2 2,-2.2 2,-2.6 2.9,-2.6
  rectangle: 2,-0.2 2.9,0.2
  region: -2,0.2 -2.9,0.2 -2.9,-0.2 -2,-0.2
  rectangle: -2.9,-2.6 -2,-2.2
  rectangle: -2.9,-1.8 -2,-1.4
  rectangle: -2.9,-1 -2,-0.6
  rectangle: -2.9,0.6 -2,1
  rectangle: -2.9,1.4 -2,1.8
  region: 1.5,0.7 0.1,0.7 0.1,-0.7 1.5,-0.7
  rectangle: -1.5,-0.7 -0.1,0.7
  region: 1.5,2.35 0.11,2.35 0.11,0.95 1.5,0.95
  rectangle: -1.5,0.95 -0.1,2.35
  region: 1.5,-0.95 0.1,-0.95 0.1,-2.35 1.5,-2.35
  rectangle: -1.5,-2.35 -0.1,-0.95
  rectangle: -2.9,2.2 -2,2.6
Mechanical 13:
  circle w0.1: c-1.65,2.15 r0.5
  lines w0.1: -2.55,-3.05 2.55,-3.05 2.55,3.05 -2.55,3.05 -2.55,-3.05
Mechanical 15:
  lines w0.05: -2.8,-3.15 2.8,-3.15 2.8,3.15 -2.8,3.15 -2.8,-3.15
  lines w0.1: -0.5,0 0.5,0 ; 0,-0.5 0,0.5
3D body: height 1, standoff 0, extent -2.549,-3.049 2.549,3.049

## T05A [mm] "TO, Thru-Hole, Vertical, Heatsink Mounted; 5 In-Line Leads; Pitch 1.70 mm"
height 19.6
pads (5):
  rect 1.4x2 hole 1.1: 1(-3.4,0)
  oval 1.4x2 hole 1.1: 2(-1.7,0) 3(0,0) 4(1.7,0) 5(3.4,0)
Top Overlay:
  circle w0.25: c-4.65,-1.45 r0.125
  lines w0.2: -5.3,2.3 5.3,2.3 ; -5.3,-2.1 5.3,-2.1 5.3,2.8 -5.3,2.8 -5.3,-2.1
Mechanical 13:
  lines w0.1: -5.3,2.3 5.3,2.3 ; -5.3,-2.1 -5.3,2.8 5.3,2.8 5.3,-2.1 -5.3,-2.1 ; -3.91,-0.28 -3.91,0.28 -2.89,0.28 -2.89,-0.28 -3.91,-0.28 ; -2.21,-0.28 -2.21,0.28 -1.19,0.28 -1.19,-0.28 -2.21,-0.28 ; -0.51,-0.28 -0.51,0.28 0.51,0.28 0.51,-0.28 -0.51,-0.28 ; 1.19,-0.28 1.19,0.28 2.21,0.28 2.21,-0.28 1.19,-0.28 ; 2.89,-0.28 2.89,0.28 3.91,0.28 3.91,-0.28 2.89,-0.28
Mechanical 15:
  lines w0.1: -0.5,0 0.5,0 ; 0,-0.5 0,0.5
3D body: height 13, standoff 4.1, extent -5.35,-2.15 5.35,2.85
3D body: height 19.6, standoff 13, extent -5.299,2.301 5.299,2.799
3D body: height 4.1, standoff 0, extent -3.909,-0.279 -2.891,0.279
3D body: height 4.1, standoff 0, extent -2.209,-0.279 -1.191,0.279
3D body: height 4.1, standoff 0, extent 1.191,-0.279 2.209,0.279
3D body: height 4.1, standoff 0, extent 2.891,-0.279 3.909,0.279
3D body: height 4.1, standoff 0, extent -0.509,-0.279 0.509,0.279

## T05D [mm] "TO, Thru-Hole, Vertical, Heatsink Mounted; 5 Bent Staggered Leads; Pitch 1.7 mm"
height 21.1
pads (5):
  rect 1.7x1.7 hole 1.1: 1(-3.4,-2)
  round 1.7 hole 1.1: 2(-1.7,2) 3(0,-2) 4(1.7,2) 5(3.4,-2)
Top Overlay:
  circle w0.25: c-4.8,-2 r0.125
  lines w0.2: -5.3,5.73 5.3,5.73 ; -3.854,1.53 -5.3,1.53 -5.3,6.23 5.3,6.23 5.3,1.53 3.854,1.53
Mechanical 13:
  lines w0.1: -5.3,4.93 5.3,4.93 ; -3.91,-1.685 -3.91,-2.315 -2.89,-2.315 -2.89,-1.685 ; -3.91,-1.685 -2.89,-1.685 ; -3.91,-1.685 -3.91,3.005 ; -3.91,3.005 -2.89,3.005 ; -3.91,3.005 -3.91,3.635 -2.89,3.635 -2.89,3.005 ; -2.89,-1.685 -2.89,3.005 ; -2.21,2.315 -2.21,1.685 -1.19,1.685 -1.19,2.315 ; -2.21,2.315 -1.19,2.315 ; -2.21,2.315 -2.21,3.005 ; -2.21,3.005 -1.19,3.005 ; -2.21,3.005 -2.21,3.635 -1.19,3.635 -1.19,3.005 ; -1.19,2.315 -1.19,3.005 ; -0.51,-1.685 -0.51,3.005 ; -0.51,-1.685 0.51,-1.685 ; -0.51,-1.685 -0.51,-2.315 0.51,-2.315 0.51,-1.685 ; -0.51,3.005 -0.51,3.635 0.51,3.635 0.51,3.005 ; -0.51,3.005 0.51,3.005 ; 0.51,-1.685 0.51,3.005 ; 1.19,2.315 1.19,1.685 2.21,1.685 2.21,2.315 ; 1.19,2.315 2.21,2.315 ; 1.19,2.315 1.19,3.005 ; 1.19,3.005 2.21,3.005 ; 1.19,3.005 1.19,3.635 2.21,3.635 2.21,3.005 ; 2.21,2.315 2.21,3.005 ; 2.89,-1.685 2.89,3.005 ; 2.89,-1.685 2.89,-2.315 3.91,-2.315 3.91,-1.685 ; 2.89,-1.685 3.91,-1.685 ; 2.89,3.005 3.91,3.005 ; 2.89,3.005 2.89,3.635 3.91,3.635 3.91,3.005 ; 3.91,-1.685 3.91,3.005 ; -5.3,1.53 -5.3,6.23 5.3,6.23 5.3,1.53 -5.3,1.53
Mechanical 15:
  lines w0.1: -0.5,0 0.5,0 ; 0,-0.5 0,0.5
3D body: height 5.6, standoff 1.95, extent -3.909,3.006 -2.891,3.634
3D body: height 1.72, standoff 0.63, extent 2.891,-1.684 3.909,1.529
3D body: height 1.72, standoff 0.63, extent -0.509,-1.684 0.509,1.529
3D body: height 1.72, standoff 0.63, extent -3.909,-1.684 -2.891,1.529
3D body: height 0.93, standoff 0, extent 2.891,-2.314 3.909,-1.686
3D body: height 0.93, standoff 0, extent -0.509,-2.314 0.509,-1.686
3D body: height 0.93, standoff 0, extent -3.909,-2.314 -2.891,-1.686
3D body: height 2.26, standoff 1.42, extent -0.509,1.531 0.509,3.004
3D body: height 2.26, standoff 1.42, extent -3.909,1.531 -2.891,3.004
3D body: height 2.26, standoff 1.42, extent 2.891,1.531 3.909,3.004
3D body: height 2.26, standoff 0.63, extent 1.191,2.316 2.209,3.004
3D body: height 2.26, standoff 0.63, extent -2.209,2.316 -1.191,3.004
3D body: height 0.93, standoff 0, extent -2.209,1.686 -1.191,2.314
3D body: height 0.93, standoff 0, extent 1.191,1.686 2.209,2.314
3D body: height 5.6, standoff 1.95, extent 2.891,3.006 3.909,3.634
3D body: height 5.6, standoff 1.95, extent 1.191,3.006 2.209,3.634
3D body: height 5.6, standoff 1.95, extent -0.509,3.006 0.509,3.634
3D body: height 5.6, standoff 1.95, extent -2.209,3.006 -1.191,3.634
3D body: height 14.5, standoff 5.6, extent -5.35,1.48 5.35,6.28
3D body: height 21.1, standoff 14.5, extent -5.299,4.931 5.299,6.229

## TA07B [mm] "TO, Thru-Hole, Vertical, Heatsink Mounted; 7 Bent Staggered Leads; Pitch 1.27 mm"
height 20.9
pads (7):
  rect 1.6x1.6 hole 1: 1(-3.81,-2.54)
  round 1.6 hole 1: 2(-2.54,2.54) 3(-1.27,-2.54) 4(0,2.54) 5(1.27,-2.54) 6(2.54,2.54) 7(3.81,-2.54)
Top Overlay:
  circle w0.25: c-5.16,-2.54 r0.125
  lines w0.2: -5.25,4.85 5.25,4.85 ; -4,0.67 -5.25,0.67 -5.25,5.35 5.25,5.35 5.25,0.67 4,0.67
Mechanical 13:
  lines w0.1: -5.25,4.05 5.25,4.05 ; -4.255,-2.26 -4.255,-2.82 -3.365,-2.82 -3.365,-2.26 ; -4.255,-2.26 -3.365,-2.26 ; -4.255,-2.26 -4.255,2.26 ; -4.255,2.26 -3.365,2.26 ; -4.255,2.26 -4.255,2.82 -3.365,2.82 -3.365,2.26 ; -3.365,-2.26 -3.365,2.26 ; -1.715,-2.26 -1.715,-2.82 -0.825,-2.82 -0.825,-2.26 ; -1.715,-2.26 -0.825,-2.26 ; -1.715,-2.26 -1.715,2.26 ; -1.715,2.26 -0.825,2.26 ; -1.715,2.26 -1.715,2.82 -0.825,2.82 -0.825,2.26 ; -0.825,-2.26 -0.825,2.26 ; 0.825,-2.26 0.825,-2.82 1.715,-2.82 1.715,-2.26 ; 0.825,-2.26 1.715,-2.26 ; 0.825,-2.26 0.825,2.26 ; 0.825,2.26 1.715,2.26 ; 0.825,2.26 0.825,2.82 1.715,2.82 1.715,2.26 ; 1.715,-2.26 1.715,2.26 ; 3.365,-2.26 3.365,2.26 ; 3.365,-2.26 3.365,-2.82 4.255,-2.82 4.255,-2.26 ; 3.365,-2.26 4.255,-2.26 ; 3.365,2.26 4.255,2.26 ; 3.365,2.26 3.365,2.82 4.255,2.82 4.255,2.26 ; 4.255,-2.26 4.255,2.26 ; -5.25,0.67 5.25,0.67 5.25,5.35 -5.25,5.35 -5.25,0.67 ; -2.985,2.26 -2.095,2.26 -2.095,2.82 -2.985,2.82 -2.985,2.26 ; -0.445,2.26 0.445,2.26 0.445,2.82 -0.445,2.82 -0.445,2.26 ; 2.095,2.26 2.985,2.26 2.985,2.82 2.095,2.82 2.095,2.26
Mechanical 15:
  lines w0.1: -0.5,0 0.5,0 ; 0,-0.5 0,0.5
3D body: height 20.9, standoff 14.35, extent -5.249,4.051 5.249,5.349
3D body: height 5.4, standoff 3.3, extent 0.826,2.261 1.714,2.819
3D body: height 5.4, standoff 3.3, extent 3.366,2.261 4.254,2.819
3D body: height 5.4, standoff 0, extent 2.096,2.261 2.984,2.819
3D body: height 5.4, standoff 0, extent -0.444,2.261 0.444,2.819
3D body: height 5.4, standoff 3.3, extent -4.254,2.261 -3.366,2.819
3D body: height 5.4, standoff 0, extent -2.984,2.261 -2.096,2.819
3D body: height 5.4, standoff 3.3, extent -1.714,2.261 -0.826,2.819
3D body: height 3.69, standoff 2.15, extent -4.254,0.671 -3.366,2.259
3D body: height 3.69, standoff 2.15, extent -1.714,0.671 -0.826,2.259
3D body: height 3.69, standoff 2.15, extent 0.826,0.671 1.714,2.259
3D body: height 3.69, standoff 2.15, extent 3.366,0.671 4.254,2.259
3D body: height 2.45, standoff 0.45, extent 3.366,-2.259 4.254,0.669
3D body: height 2.45, standoff 0.45, extent 0.826,-2.259 1.714,0.669
3D body: height 2.45, standoff 0.45, extent -4.254,-2.259 -3.366,0.669
3D body: height 2.45, standoff 0.45, extent -1.714,-2.259 -0.826,0.669
3D body: height 0.7, standoff 0, extent 0.826,-2.819 1.714,-2.261
3D body: height 0.7, standoff 0, extent -4.254,-2.819 -3.366,-2.261
3D body: height 0.7, standoff 0, extent -1.714,-2.819 -0.826,-2.261
3D body: height 0.7, standoff 0, extent 3.366,-2.819 4.254,-2.261
3D body: height 14.35, standoff 5.4, extent -5.3,0.62 5.3,5.4

## TJ7A_L [mm] "D2-PAK, 8-Leads, Body 9.9x10.2mm, Pitch 1.27mm, Lead Span 14mm, IPC High Density"
height 2.1
pads (8):
  rect 2.9x0.75 smd: 1(-5.95,3.81) 2(-5.95,2.54) 3(-5.95,1.27) 4(-5.95,0) 5(-5.95,-1.27) 6(-5.95,-2.54) 7(-5.95,-3.81)
  rect 7.1x5.7 smd: 8(3.85,0)
Top Overlay:
  circle w0.25: c-5.95,4.735 r0.125
  lines w0.2: -0.1,-5.2 -2,-5.2 -2,5.2 -0.1,5.2
Mechanical 13:
  lines w0.1: -2,-5.2 8.1,-5.2 8.1,5.2 -2,5.2 -2,-5.2
Mechanical 15:
  lines w0.05: -7.5,-5.3 8.2,-5.3 8.2,5.3 -7.5,5.3 -7.5,-5.3
  lines w0.1: -0.5,0 0.5,0 ; 0,-0.5 0,0.5
3D body: height 2.1, standoff 0, extent -2,-5.2 8.1,5.2

## TJ7A_M [mm] "D2-PAK, 8-Leads, Body 9.9x10.2mm, Pitch 1.27mm, Lead Span 14mm, IPC Low Density"
height 2.1
pads (8):
  rect 3.5x0.85 smd: 1(-6.05,3.81) 2(-6.05,2.54) 3(-6.05,1.27) 4(-6.05,0) 5(-6.05,-1.27) 6(-6.05,-2.54) 7(-6.05,-3.81)
  rect 7.7x5.8 smd: 8(3.95,0)
Top Overlay:
  circle w0.25: c-6.05,4.785 r0.125
  lines w0.2: -0.3,-5.2 -1.9,-5.2 -1.9,5.2 -0.3,5.2
Mechanical 13:
  lines w0.1: -1.9,-5.2 8.2,-5.2 8.2,5.2 -1.9,5.2 -1.9,-5.2
Mechanical 15:
  lines w0.05: -8.3,-5.7 8.7,-5.7 8.7,5.7 -8.3,5.7 -8.3,-5.7
  lines w0.1: -0.5,0 0.5,0 ; 0,-0.5 0,0.5
3D body: height 2.1, standoff 0, extent -1.9,-5.2 8.2,5.2

## TJ7A_N [mm] "D2-PAK, 8-Leads, Body 9.9x10.2mm, Pitch 1.27mm, Lead Span 14mm, IPC Medium Density"
height 2.1
pads (8):
  rect 3.2x0.8 smd: 1(-6,3.81) 2(-6,2.54) 3(-6,1.27) 4(-6,0) 5(-6,-1.27) 6(-6,-2.54) 7(-6,-3.81)
  rect 7.4x5.75 smd: 8(3.9,0)
Top Overlay:
  circle w0.25: c-6,4.76 r0.125
  lines w0.2: -0.2,-5.2 -1.95,-5.2 -1.95,5.2 -0.2,5.2
Mechanical 13:
  lines w0.1: -1.95,-5.2 8.15,-5.2 8.15,5.2 -1.95,5.2 -1.95,-5.2
Mechanical 15:
  lines w0.05: -7.85,-5.45 8.4,-5.45 8.4,5.45 -7.85,5.45 -7.85,-5.45
  lines w0.1: -0.5,0 0.5,0 ; 0,-0.5 0,0.5
3D body: height 2.1, standoff 0, extent -1.95,-5.2 8.15,5.2